# EAGLE library part OP_AMP_4 (library heck)
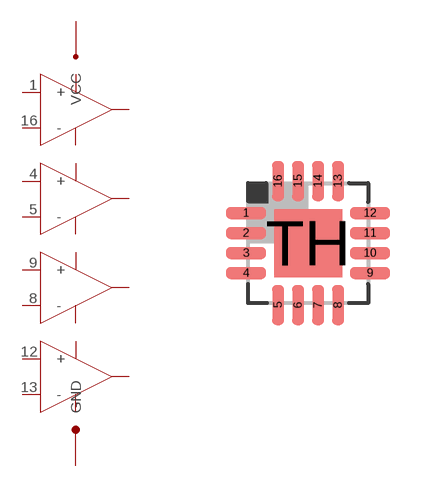
[diagram p56: symbol with the pads of QFN16; footprint QFN16]

Designator prefix U; gates U$1=OP_AMP U$2=OP_AMP U$3=OP_AMP U$4=OP_AMP G$5=PIN_GND G$1=PIN_VCC

## OP_AMP_4LM324  [QFN16]
1  U$1:+
2  G$1:VCC  pwr
4  U$2:+
5  U$2:-
6  U$2:OUT
7  U$3:OUT
8  U$3:-
9  U$3:+
11  G$5:GND  pwr
12  U$4:+
13  U$4:-
14  U$4:OUT
15  U$1:OUT
16  U$1:-

## Footprint QFN16 (pad centres in mm)
RTE (S-PQFP-N16) 3x3 mm Source: www.ti.com .. tpa6132a2 direct path stereo $.65.pdf
smd 1 x 0.3: 1 -1.55,0.75; 2 -1.55,0.25; 3 -1.55,-0.25; 4 -1.55,-0.75; 9 1.55,-0.75; 10 1.55,-0.25; 11 1.55,0.25; 12 1.55,0.75
smd 0.3 x 1: 5 -0.75,-1.55; 6 -0.25,-1.55; 7 0.25,-1.55; 8 0.75,-1.55; 13 0.75,1.55; 14 0.25,1.55; 15 -0.25,1.55; 16 -0.75,1.55
smd 1.7 x 1.7: TH 0,0